# Altium schematic symbol library Amplifiers - Audio.SchLib: 5 symbols
Pins are listed as number, name and electrical type; pins without a type are passive.

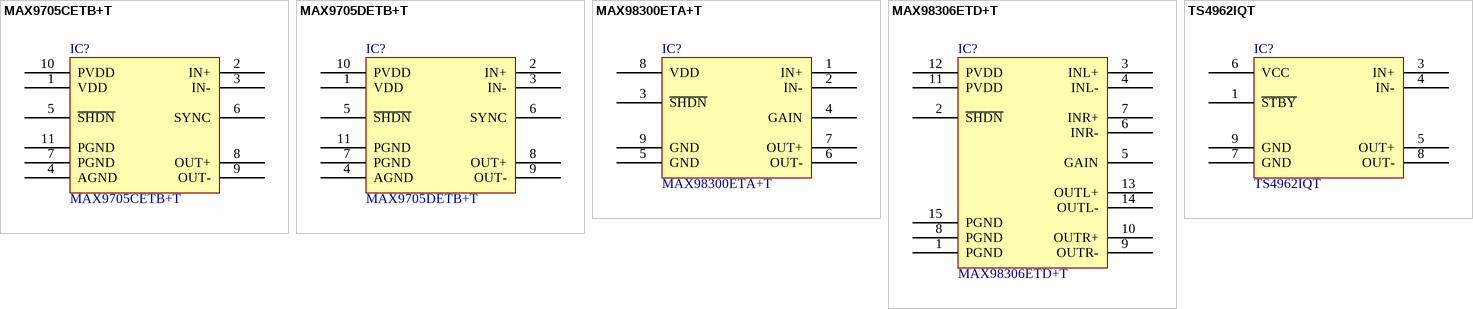
[diagram p0: symbols MAX9705CETB+T to TS4962IQT]

## MAX9705CETB+T
designator IC?
IC AMP CLASS D MONO 2.3W 10TDFN; Manufacturer: Maxim Integrated; Max Output Power x Channels @ Load: 2.3W x 1 @ 4Ohm; Output Type: 1-Channel (Mono); Voltage - Supply: 2.5V ~ 5.5V; Part Number: MAX9705CETB+T; ComponentLink1Description: Datasheet; ComponentLink1URL: https://datasheets.maximintegrated.com/en/ds/MAX9705.pdf; ComponentLink2Description: DigiKey Link; ComponentLink2URL: //digikey.com/product-detail/en/maxim-integrated/MAX9705CETB-T/MAX9705CETB-TDKR-ND/2690228; Device Package: 10-WFDFN Exposed Pad; Features: Depop, Differential Inputs, Short-Circuit and Thermal Protection, Shutdown; LastUpdated: 12/3/2019 11:18:56 PM; Lifecycle Status: 0; Minimum Order: 0; Mounting Type: Surface Mount; Operating Temperature: -40°C ~ 85°C (TA); Package / Case: 10-WFDFN Exposed Pad; PartId: 5; Part Status: Active; Price: 0; Series: -; Supplier 1: DigiKey; Supplier Part Number 1: MAX9705CETB+TDKR-ND; Supplier Device Package: 10-TDFN-EP (3x3); Type: Class D
footprint MAXIM TDFN-10 3X3MM T1033-1
pins: 1 VDD, 2 IN+, 3 IN-, 4 AGND, 5 ~{SHDN}, 6 SYNC, 7 PGND, 8 OUT+, 9 OUT-, 10 PVDD, 11 PGND

## MAX9705DETB+T
designator IC?
IC AMP CLASS D MONO 2.3W 10TDFN; Manufacturer: Maxim Integrated; Max Output Power x Channels @ Load: 2.3W x 1 @ 4Ohm; Output Type: 1-Channel (Mono); Voltage - Supply: 2.5V ~ 5.5V; Part Number: MAX9705DETB+T; ComponentLink1Description: Datasheet; ComponentLink1URL: https://datasheets.maximintegrated.com/en/ds/MAX9705.pdf; ComponentLink2Description: DigiKey Link; ComponentLink2URL: //digikey.com/product-detail/en/maxim-integrated/MAX9705DETB-T/MAX9705DETB-TDKR-ND/2699335; Device Package: 10-WFDFN Exposed Pad; Features: Depop, Differential Inputs, Short-Circuit and Thermal Protection, Shutdown; LastUpdated: 12/5/2019 6:46:55 AM; Lifecycle Status: 0; Minimum Order: 0; Mounting Type: Surface Mount; Operating Temperature: -40°C ~ 85°C (TA); Package / Case: 10-WFDFN Exposed Pad; PartId: 6; Part Status: Active; Price: 0; Series: -; Supplier 1: DigiKey; Supplier Part Number 1: MAX9705DETB+TDKR-ND; Supplier Device Package: 10-TDFN-EP (3x3); Type: Class D
footprint MAXIM TDFN-10 3X3MM T1033-1
pins: 1 VDD, 2 IN+, 3 IN-, 4 AGND, 5 ~{SHDN}, 6 SYNC, 7 PGND, 8 OUT+, 9 OUT-, 10 PVDD, 11 PGND

## MAX98300ETA+T
designator IC?
IC AMP CLASS D MONO 2.6W 8TDFN; Manufacturer: Maxim Integrated; Max Output Power x Channels @ Load: 2.6W x 1 @ 4Ohm; Output Type: 1-Channel (Mono); Voltage - Supply: 2.6V ~ 5.5V; Part Number: MAX98300ETA+T; ComponentLink1Description: Datasheet; ComponentLink1URL: https://datasheets.maximintegrated.com/en/ds/MAX98300.pdf; ComponentLink2Description: DigiKey Link; ComponentLink2URL: //digikey.com/product-detail/en/maxim-integrated/MAX98300ETA-T/MAX98300ETA-TTR-ND/2356940; Device Package: 8-WFDFN Exposed Pad; Features: Depop, Differential Inputs, Short-Circuit and Thermal Protection, Shutdown; LastUpdated: 12/3/2019 11:06:57 PM; Lifecycle Status: 0; Minimum Order: 1; Mounting Type: Surface Mount; Operating Temperature: -40°C ~ 85°C (TA); Package / Case: 8-WFDFN Exposed Pad; Packaging: TapeAndReel; PartId: 3; Part Status: Active; Price: 0.59; Series: -; Supplier 1: DigiKey; Supplier Part Number 1: MAX98300ETA+TTR-ND; Supplier Device Package: 8-TDFN-EP (2x2); Type: Class D
footprint MAXIM TDFN-8 2X2MM
pins: 1 IN+, 2 IN-, 3 ~{SHDN}, 4 GAIN, 5 GND, 6 OUT-, 7 OUT+, 8 VDD, 9 GND

## MAX98306ETD+T
designator IC?
IC AMP CLASS D STER 3.7W 14TDFN; Manufacturer: Maxim Integrated; Max Output Power x Channels @ Load: 3.7W x 2 @ 3Ohm; Output Type: 2-Channel (Stereo); Voltage - Supply: 2.6V ~ 5.5V; Part Number: MAX98306ETD+T; ComponentLink1Description: Datasheet; ComponentLink1URL: https://datasheets.maximintegrated.com/en/ds/MAX98306.pdf; ComponentLink2Description: DigiKey Link; ComponentLink2URL: //digikey.com/product-detail/en/maxim-integrated/MAX98306ETD-T/MAX98306ETD-TTR-ND/2708795; Device Package: 14-WFDFN Exposed Pad; Features: Depop, Differential Inputs, Short-Circuit and Thermal Protection, Shutdown; LastUpdated: 12/3/2019 11:05:13 PM; Lifecycle Status: 0; Minimum Order: 1; Mounting Type: Surface Mount; Operating Temperature: -40°C ~ 85°C (TA); Package / Case: 14-WFDFN Exposed Pad; Packaging: TapeAndReel; PartId: 2; Part Status: Active; Price: 0.60; Series: -; Supplier 1: DigiKey; Supplier Part Number 1: MAX98306ETD+TTR-ND; Supplier Device Package: 14-TDFN-EP (3x3); Type: Class D
footprint SKYWORKS TDFN-14 3X3MM
pins: 1 PGND, 2 ~{SHDN}, 3 INL+, 4 INL-, 5 GAIN, 6 INR-, 7 INR+, 8 PGND, 9 OUTR-, 10 OUTR+, 11 PVDD, 12 PVDD, 13 OUTL+, 14 OUTL-, 15 PGND

## TS4962IQT
designator IC?
IC AMP CLASS D MONO 2.8W 8DFN; Manufacturer: STMicroelectronics; Max Output Power x Channels @ Load: 2.8W x 1 @ 4Ohm; Output Type: 1-Channel (Mono); Voltage - Supply: 2.4V ~ 5.5V; Part Number: TS4962IQT; ComponentLink1Description: Datasheet; ComponentLink1URL: http://www.st.com/content/ccc/resource/technical/document/datasheet/4e/19/1b/1f/fc/43/49/b6/CD00045973.pdf/files/CD00045973.pdf/jcr:content/translations/en.CD00045973.pdf; ComponentLink2Description: DigiKey Link; ComponentLink2URL: //digikey.com/product-detail/en/stmicroelectronics/TS4962IQT/497-5993-2-ND/1578397; Device Package: 8-UDFN Exposed Pad; Features: Depop, Differential Inputs, Standby, Thermal Protection; LastUpdated: 12/3/2019 5:29:13 PM; Lifecycle Status: 0; Minimum Order: 1; Mounting Type: Surface Mount; Operating Temperature: -40°C ~ 85°C (TA); Package / Case: 8-UDFN Exposed Pad; Packaging: TapeAndReel; PartId: 1; Part Status: Active; Price: 0.45; Series: -; Supplier 1: DigiKey; Supplier Part Number 1: 497-5993-2-ND; Supplier Device Package: 8-DFN (3x3); Type: Class D
footprint ATMEL UDFN-8 2X2MM 8MA4
pins: 1 ~{STBY}, 3 IN+, 4 IN-, 5 OUT+, 6 VCC, 7 GND, 8 OUT-, 9 GND